# EAGLE library part SIM900 (library SIMCOM)
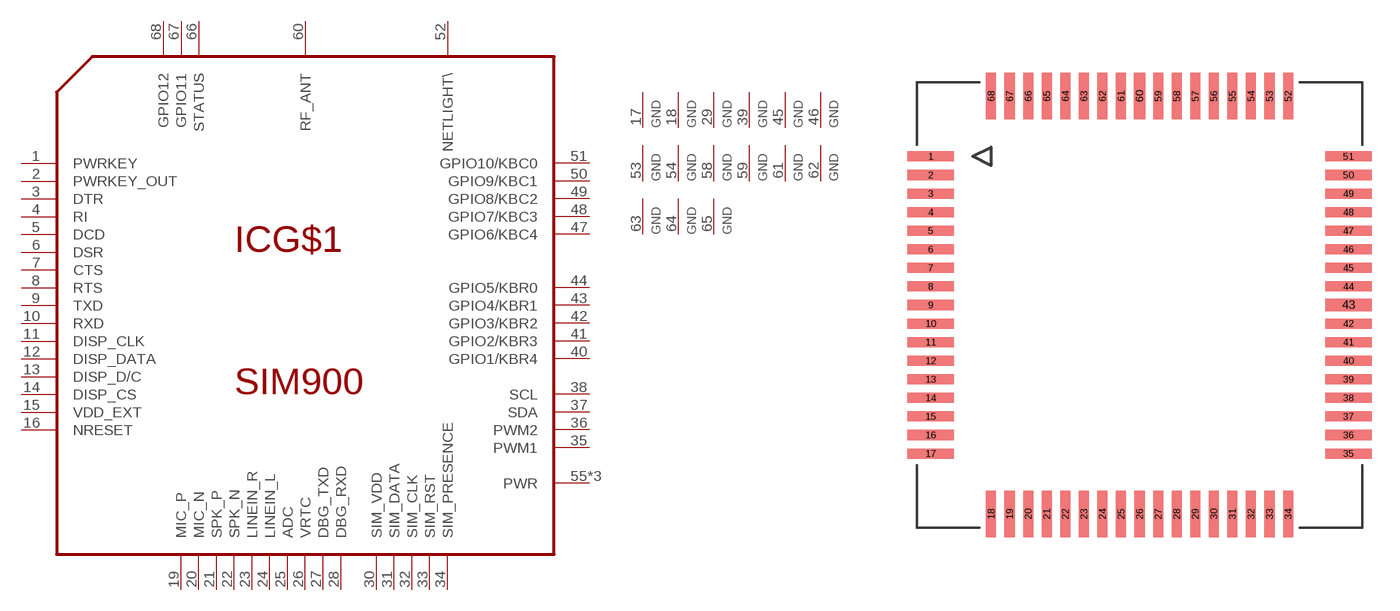
[diagram p1: symbol with the pads of SIM900; footprint SIM900]

Designator prefix IC; gates G$1=SIM900 GND@1=GND GND@2=GND GND@3=GND GND@4=GND GND@5=GND GND@6=GND GND@7=GND GND@8=GND GND@9=GND GND@10=GND GND@11=GND GND@12=GND GND@13=GND GND@14=GND GND@15=GND

## SIM900  [SIM900]
1  G$1:PWRKEY
2  G$1:PWRKEY_OUT
3  G$1:DTR
4  G$1:RI
5  G$1:DCD
6  G$1:DSR
7  G$1:CTS
8  G$1:RTS
9  G$1:TXD
10  G$1:RXD
11  G$1:DISP_CLK
12  G$1:DISP_DATA
13  G$1:DISP_D/C
14  G$1:DISP_CS
15  G$1:VDD_EXT
16  G$1:NRESET
17  GND@1:GND  pwr
18  GND@2:GND  pwr
19  G$1:MIC_P
20  G$1:MIC_N
21  G$1:SPK_P
22  G$1:SPK_N
23  G$1:LINEIN_R
24  G$1:LINEIN_L
25  G$1:ADC
26  G$1:VRTC
27  G$1:DBG_TXD
28  G$1:DBG_RXD
29  GND@3:GND  pwr
30  G$1:SIM_VDD
31  G$1:SIM_DATA
32  G$1:SIM_CLK
33  G$1:SIM_RST
34  G$1:SIM_PRESENCE
35  G$1:PWM1
36  G$1:PWM2
37  G$1:SDA
38  G$1:SCL
39  GND@4:GND  pwr
40  G$1:GPIO1/KBR4
41  G$1:GPIO2/KBR3
42  G$1:GPIO3/KBR2
43  G$1:GPIO4/KBR1
44  G$1:GPIO5/KBR0
45  GND@5:GND  pwr
46  GND@6:GND  pwr
47  G$1:GPIO6/KBC4
48  G$1:GPIO7/KBC3
49  G$1:GPIO8/KBC2
50  G$1:GPIO9/KBC1
51  G$1:GPIO10/KBC0
52  G$1:NETLIGHT\
53  GND@7:GND  pwr
54  GND@8:GND  pwr
55  G$1:PWR  pwr
56  G$1:PWR  pwr
57  G$1:PWR  pwr
58  GND@9:GND  pwr
59  GND@10:GND  pwr
60  G$1:RF_ANT
61  GND@11:GND  pwr
62  GND@12:GND  pwr
63  GND@13:GND  pwr
64  GND@14:GND  pwr
65  GND@15:GND  pwr
66  G$1:STATUS
67  G$1:GPIO11
68  G$1:GPIO12

## Footprint SIM900 (pad centres in mm)
smd 2.5 x 0.546: 1 -11.25,8; 2 -11.25,7; 3 -11.25,6; 4 -11.25,5; 5 -11.25,4; 6 -11.25,3; 7 -11.25,2; 8 -11.25,1; 9 -11.25,0; 10 -11.25,-1; 11 -11.25,-2; 12 -11.25,-3; 13 -11.25,-4; 14 -11.25,-5; 15 -11.25,-6; 16 -11.25,-7; 17 -11.25,-8; 35 11.25,-8; 36 11.25,-7; 37 11.25,-6; 38 11.25,-5; 39 11.25,-4; 40 11.25,-3; 41 11.25,-2; 42 11.25,-1; 44 11.25,1; 45 11.25,2; 46 11.25,3; 47 11.25,4; 48 11.25,5; 49 11.25,6; 50 11.25,7; 51 11.25,8
smd 0.546 x 2.5: 18 -8,-11.25; 19 -7,-11.25; 20 -6,-11.25; 21 -5,-11.25; 22 -4,-11.25; 23 -3,-11.25; 24 -2,-11.25; 25 -1,-11.25; 26 0,-11.25; 27 1,-11.25; 28 2,-11.25; 29 3,-11.25; 30 4,-11.25; 31 5,-11.25; 32 6,-11.25; 33 7,-11.25; 34 8,-11.25; 52 8,11.25; 53 7,11.25; 54 6,11.25; 55 5,11.25; 56 4,11.25; 57 3,11.25; 58 2,11.25; 59 1,11.25; 61 -1,11.25; 62 -2,11.25; 63 -3,11.25; 64 -4,11.25; 65 -5,11.25; 66 -6,11.25; 67 -7,11.25; 68 -8,11.25
smd 2.5 x 0.648: 43 11.25,0
smd 0.6 x 2.5: 60 0,11.25